# EAGLE library part MAX4052 (library analog)
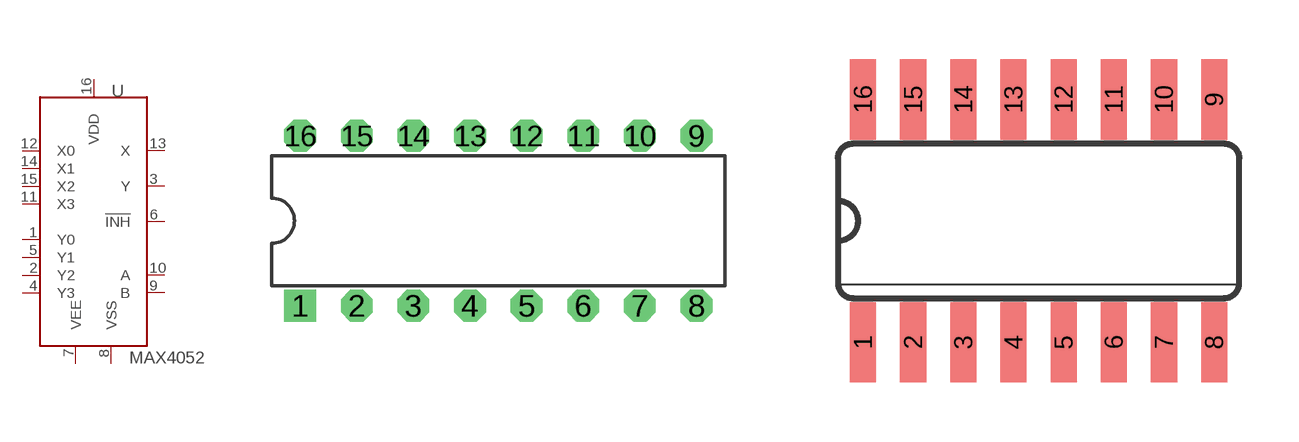
[diagram p5: symbol with the pads of DIP16; footprints DIP16, SOIC16]

Designator prefix -

## MAX4052DIP  [DIP16]
1  Y0
2  Y2
3  Y
4  Y3
5  Y1
6  !INH
7  VEE
8  VSS
9  B
10  A
11  X3
12  X0
13  X
14  X1
15  X2
16  VDD

## MAX4052SOIC  [SOIC16]
Pads as for DIP16

## Footprint DIP16 (pad centres in mm)
Dual In Line Package
drill 0.7 pad 1.422 square: 1 -8.89,-3.81
drill 0.7 pad 1.422 octagon: 2 -6.35,-3.81; 3 -3.81,-3.81; 4 -1.27,-3.81; 5 1.27,-3.81; 6 3.81,-3.81; 7 6.35,-3.81; 8 8.89,-3.81; 9 8.89,3.81; 10 6.35,3.81; 11 3.81,3.81; 12 1.27,3.81; 13 -1.27,3.81; 14 -3.81,3.81; 15 -6.35,3.81; 16 -8.89,3.81

## Footprint SOIC16 (pad centres in mm)
Small Outline Package
smd 0.66 x 2.032: 1 -4.445,-3.073; 2 -3.175,-3.073; 3 -1.905,-3.073; 4 -0.635,-3.073; 5 0.635,-3.073; 6 1.905,-3.073; 7 3.175,-3.073; 8 4.445,-3.073; 9 4.445,3.073; 10 3.175,3.073; 11 1.905,3.073; 12 0.635,3.073; 13 -0.635,3.073; 14 -1.905,3.073; 15 -3.175,3.073; 16 -4.445,3.073